# Altium footprint library BNC-RA.PcbLib: 1 footprints
Each footprint in its own frame and in the unit in brackets; x right, y up, seen from the top. Pads: shape width x height; smd on the part's side, far side on the other; paste and mask are expansions set on the pad; w line width, h text height; cw(c..) or ccw(c..) is an arc to the next point about the centre after c.
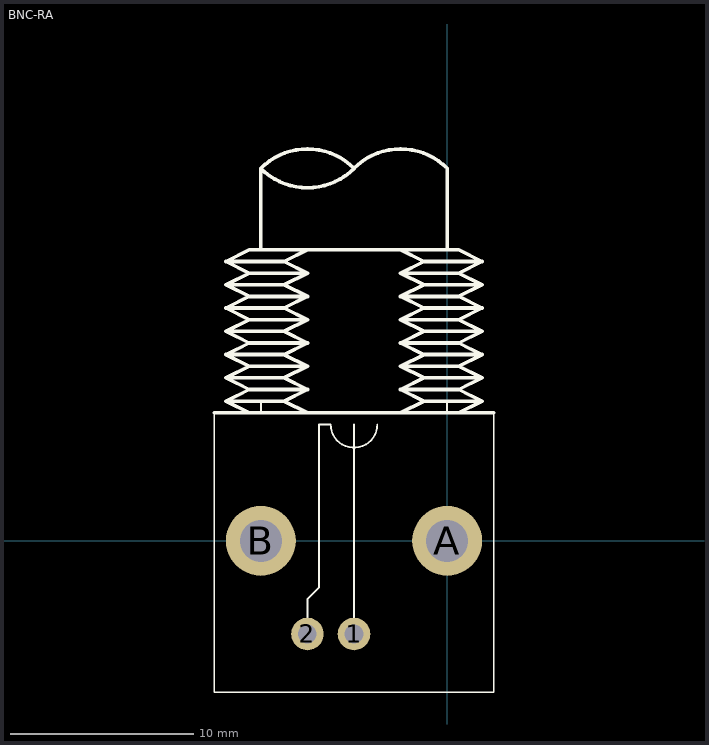
[diagram p0: the footprint, top view; thin cyan lines are the x and y axes]

## BNC-RA [mil]
pads (4):
  round 70 hole 40: 1(-200,-200) 2(-300,-200)
  round 150 hole 90: A(0,0) B(-400,0)
Top Overlay:
  lines w4: -400,275 -400,300 ; -325,275 100,275 ; -300,-200 -300,-125 -275,-100 -275,250 -250,250 ccw(c-200,250) -150,250 ; -300,275 -500,275 -500,25 -500,-325 100,-325 100,275 ; -200,-200 -200,200 -200,250 -200,225 ; 0,275 0,300 ; 100,-225 100,275
  lines w8: -500,275 100,275 ; -425,275 -475,300 ; -400.17,799.83 ccw(c-300,900) -199.83,799.83 ; -400.17,800.17 cw(c-300,700) -199.83,800.17 ; -400,625 -400,800 ; -300,275 -350,300 ; -200.17,800.17 cw(c-100,700) 0.17,800.17 ; -100,275 -50,300 ; 0,625 0,800 ; 25,275 75,300 ; -475,300 -350,300 ; -475,300 -425,325 ; -475,350 -350,350 ; -475,350 -425,375 ; -475,350 -425,325 ; -475,400 -350,400 ; -475,400 -425,425 ; -475,400 -425,375 ; -475,450 -350,450 ; -475,450 -425,475 ; -475,450 -425,425 ; -475,500 -350,500 ; -475,500 -425,525 ; -475,500 -425,475 ; -475,550 -350,550 ; -475,550 -425,575 ; -475,550 -425,525 ; -475,600 -350,600 ; -475,600 -425,625 ; -475,600 -425,575 ; -425,325 -300,325 ; -425,375 -300,375 ; -425,425 -300,425 ; -425,475 -300,475 ; -425,525 -300,525 ; -425,575 -300,575 ; -425,625 -300,625 -350,600 ; -425,625 25,625 ; -350,300 -300,325 ; -350,350 -300,375 ; -350,350 -300,325 ; -350,400 -300,425 ; -350,400 -300,375 ; -350,450 -300,475 ; -350,450 -300,425 ; -350,500 -300,525 ; -350,500 -300,475 ; -350,550 -300,575 ; -350,550 -300,525 ; -350,600 -300,575 ; -100,325 25,325 ; -100,325 -50,350 ; -100,325 -50,300 ; -100,375 25,375 ; -100,375 -50,400 ; -100,375 -50,350 ; -100,425 25,425 ; -100,425 -50,450 ; -100,425 -50,400 ; -100,475 25,475 ; -100,475 -50,500 ; -100,475 -50,450 ; -100,525 25,525 ; -100,525 -50,550 ; -100,525 -50,500 ; -100,575 25,575 ; -100,575 -50,600 ; -100,575 -50,550 ; -50,300 75,300 ; -50,350 75,350 ; -50,400 75,400 ; -50,450 75,450 ; -50,500 75,500 ; -50,550 75,550 ; -50,600 75,600 ; -50,600 -100,625 25,625 ; 25,325 75,350 ; 25,325 75,300 ; 25,375 75,400 ; 25,375 75,350 ; 25,425 75,450 ; 25,425 75,400 ; 25,475 75,500 ; 25,475 75,450 ; 25,525 75,550 ; 25,525 75,500 ; 25,575 75,600 ; 25,575 75,550 ; 25,625 75,600
3D body "bnc 3.STEP": height 619.21, standoff -168.19, extent -490,-280 91.1,1127.48